# EAGLE library part RA-02 (library ai-thinker)
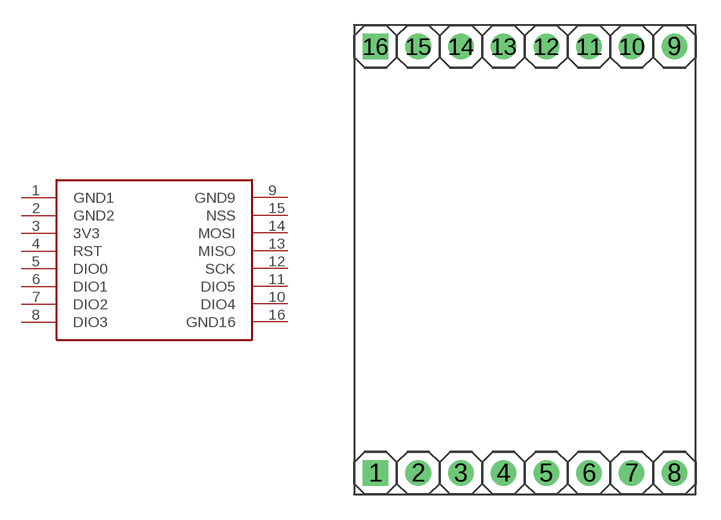
[diagram p0: symbol with the pads of RA-02; footprint RA-02]

Designator prefix -

## RA-02  [RA-02]
1  GND1  pwr
2  GND2  pwr
3  3V3  pwr
4  RST
5  DIO0
6  DIO1
7  DIO2
8  DIO3
9  GND9  pwr
10  DIO4
11  DIO5
12  SCK
13  MISO
14  MOSI
15  NSS
16  GND16  pwr

## Footprint RA-02 (pad centres in mm)
drill 1.016 square: 1 1.27,1.27; 16 1.27,26.67
drill 1.016: 2 3.81,1.27; 3 6.35,1.27; 4 8.89,1.27; 5 11.43,1.27; 6 13.97,1.27; 7 16.51,1.27; 8 19.05,1.27; 9 19.05,26.67; 10 16.51,26.67; 11 13.97,26.67; 12 11.43,26.67; 13 8.89,26.67; 14 6.35,26.67; 15 3.81,26.67